# EAGLE library part AD7705 (library AD convertor)
AD7705 A-D converter (2ch) Producted by Analog Devices.Co Store Information: Digi-Key http://search.digikey.com/scripts/DkSearch/dksus.dll?Detail&name=AD7705BRUZ-ND
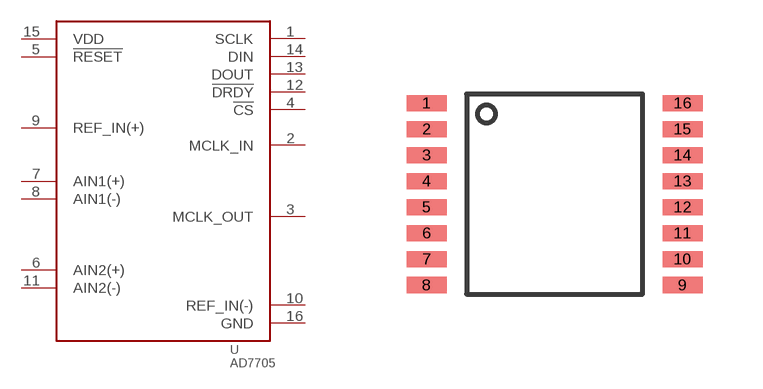
[diagram p1: symbol with the pads of 16-TSSOP; footprint 16-TSSOP]

Designator prefix U

## AD7705,16-TSSOP  [16-TSSOP]
1  SCLK
2  MCLK_IN
3  MCLK_OUT
4  !CS
5  !RESET
6  AIN2(+)
7  AIN1(+)
8  AIN1(-)
9  REF_IN(+)
10  REF_IN(-)
11  AIN2(-)
12  !DRDY
13  DOUT
14  DIN
15  VDD
16  GND

## Footprint 16-TSSOP (pad centres in mm)
4.4*5mm size , 0.65mm pitch , 16pin pacage
smd 1 x 0.4: 1 -3.2,2.275; 2 -3.2,1.625; 3 -3.2,0.975; 4 -3.2,0.325; 5 -3.2,-0.325; 6 -3.2,-0.975; 7 -3.2,-1.625; 8 -3.2,-2.275; 9 3.2,-2.275; 10 3.2,-1.625; 11 3.2,-0.975; 12 3.2,-0.325; 13 3.2,0.325; 14 3.2,0.975; 15 3.2,1.625; 16 3.2,2.275